# Altium schematic symbol library THS4271D.SchLib: 1 symbol
Pins are listed as number, name and electrical type; pins without a type are passive.

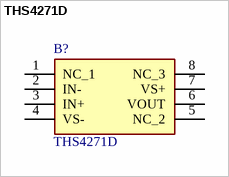
[diagram p0: symbol THS4271D]

## THS4271D
designator B?
Super-Fast Ultra-Low Distortion High Speed Amplifier; Manufacturer_Name: Texas Instruments; Geometry.Height: 1.75mm; Mouser Part Number: 595-THS4271D; Mouser Price/Stock: https://www.mouser.co.uk/ProductDetail/Texas-Instruments/THS4271D?qs=ZmJdcv7QZ9ppdaigv2fizw%3D%3D; Manufacturer_Part_Number: THS4271D; Datasheet Link: http://www.ti.com/lit/ds/symlink/ths4271.pdf
footprint SOIC127P600X175-8N
pins: 1 NC_1, 2 IN-, 3 IN+, 4 VS-, 5 NC_2, 6 VOUT, 7 VS+, 8 NC_3